# EAGLE library part FLYING_JALAPENO_V2 (library SparkFun)
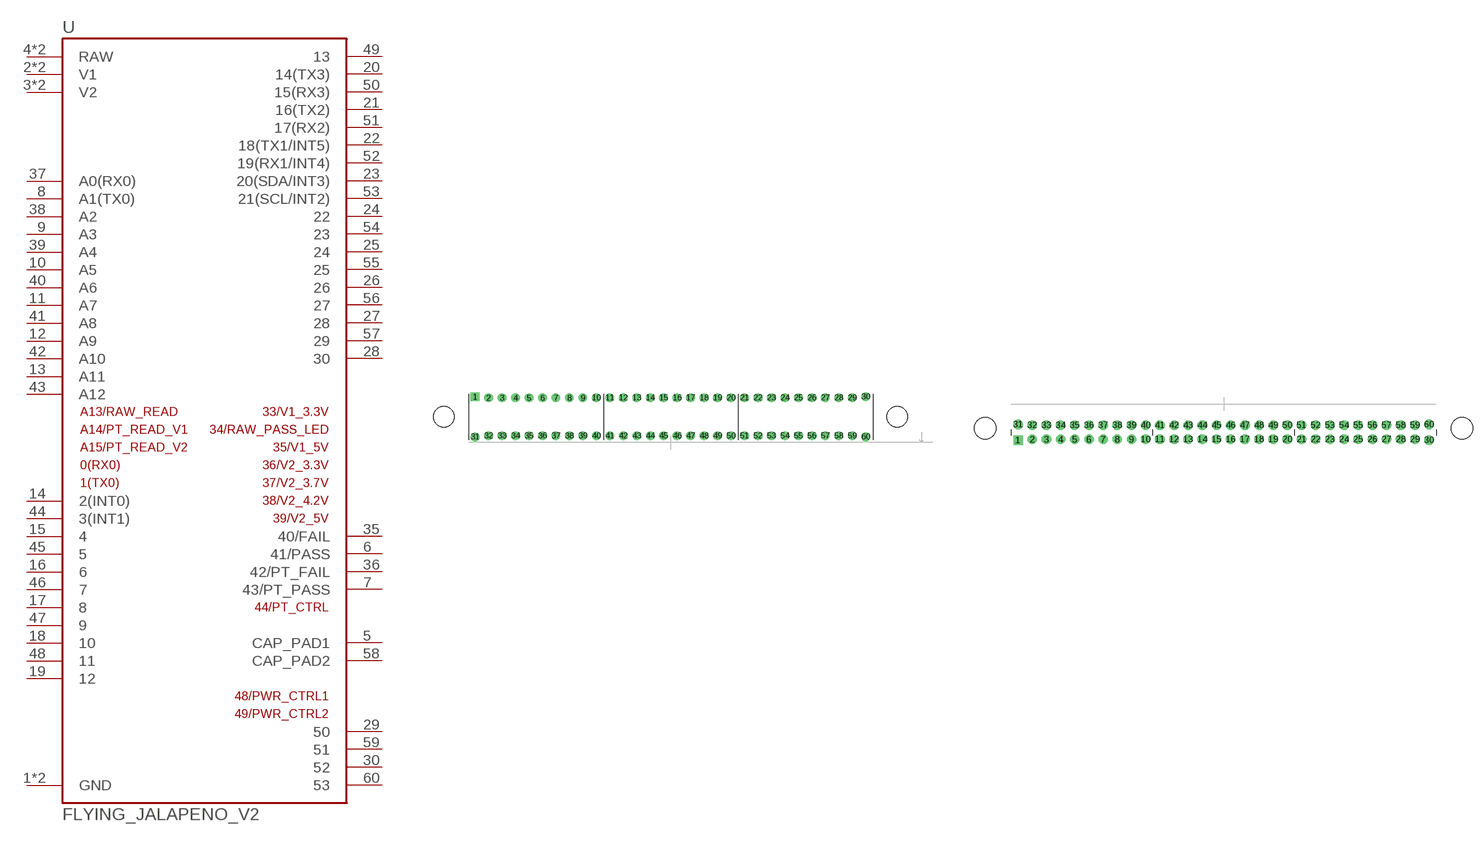
[diagram p5: symbol with the pads of FLYING_JALAPENO_V2_F; footprints FLYING_JALAPENO_V2_F, FLYING_JALAPENO_V2_M]

Designator prefix -

## FLYING_JALAPENO_V2FEMALE  [FLYING_JALAPENO_V2_F]
1  GND
2  V1
3  V2
4  RAW
5  CAP_PAD1
6  41/PASS
7  43/PT_PASS
8  A1(TX0)
9  A3
10  A5
11  A7
12  A9
13  A11
14  2(INT0)
15  4
16  6
17  8
18  10
19  12
20  14(TX3)
21  16(TX2)
22  18(TX1/INT5)
23  20(SDA/INT3)
24  22
25  24
26  26
27  28
28  30
29  50
30  52
31  GND
32  V1
33  V2
34  RAW
35  40/FAIL
36  42/PT_FAIL
37  A0(RX0)
38  A2
39  A4
40  A6
41  A8
42  A10
43  A12
44  3(INT1)
45  5
46  7
47  9
48  11
49  13
50  15(RX3)
51  17(RX2)
52  19(RX1/INT4)
53  21(SCL/INT2)
54  23
55  25
56  27
57  29
58  CAP_PAD2
59  51
60  53

## FLYING_JALAPENO_V2MALE  [FLYING_JALAPENO_V2_M]
Pads as for FLYING_JALAPENO_V2_F

## Footprint FLYING_JALAPENO_V2_F (pad centres in mm)
drill 0.8 pad 1.25 square: 1 -29,6.8
drill 0.8 pad 1.25: 2 -27,6.65; 3 -25,6.65; 4 -23,6.65; 5 -21,6.65; 6 -19,6.65; 7 -17,6.65; 8 -15,6.65; 9 -13,6.65; 10 -11,6.65; 11 -9,6.65; 12 -7,6.65; 13 -5,6.65; 14 -3,6.65; 15 -1,6.65; 16 1,6.65; 17 3,6.65; 18 5,6.65; 19 7,6.65; 20 9,6.65; 21 11,6.65; 22 13,6.65; 23 15,6.65; 24 17,6.65; 25 19,6.65; 26 21,6.65; 27 23,6.65; 28 25,6.65; 29 27,6.65; 30 29,6.8; 31 -29,0.85; 32 -27,1; 33 -25,1; 34 -23,1; 35 -21,1; 36 -19,1; 37 -17,1; 38 -15,1; 39 -13,1; 40 -11,1; 41 -9,1; 42 -7,1; 43 -5,1; 44 -3,1; 45 -1,1; 46 1,1; 47 3,1; 48 5,1; 49 7,1; 50 9,1; 51 11,1; 52 13,1; 53 15,1; 54 17,1; 55 19,1; 56 21,1; 57 23,1; 58 25,1; 59 27,1; 60 29,0.85
hole 3.048 at 33.655,3.81
hole 3.048 at -33.655,3.81

## Footprint FLYING_JALAPENO_V2_M (pad centres in mm)
drill 0.85 square: 1 -29,-5.1
drill 0.85: 2 -27,-5; 3 -25,-5; 4 -23,-5; 5 -21,-5; 6 -19,-5; 7 -17,-5; 8 -15,-5; 9 -13,-5; 10 -11,-5; 11 -9,-5; 12 -7,-5; 13 -5,-5; 14 -3,-5; 15 -1,-5; 16 1,-5; 17 3,-5; 18 5,-5; 19 7,-5; 20 9,-5; 21 11,-5; 22 13,-5; 23 15,-5; 24 17,-5; 25 19,-5; 26 21,-5; 27 23,-5; 28 25,-5; 29 27,-5; 30 29,-5.1; 31 -29,-2.9; 32 -27,-3; 33 -25,-3; 34 -23,-3; 35 -21,-3; 36 -19,-3; 37 -17,-3; 38 -15,-3; 39 -13,-3; 40 -11,-3; 41 -9,-3; 42 -7,-3; 43 -5,-3; 44 -3,-3; 45 -1,-3; 46 1,-3; 47 3,-3; 48 5,-3; 49 7,-3; 50 9,-3; 51 11,-3; 52 13,-3; 53 15,-3; 54 17,-3; 55 19,-3; 56 21,-3; 57 23,-3; 58 25,-3; 59 27,-3; 60 29,-2.9
hole 3.048 at 33.655,-3.404
hole 3.048 at -33.655,-3.404